# EAGLE library part RPI-ZERO (library 32teeth - Gaboze-Pi)
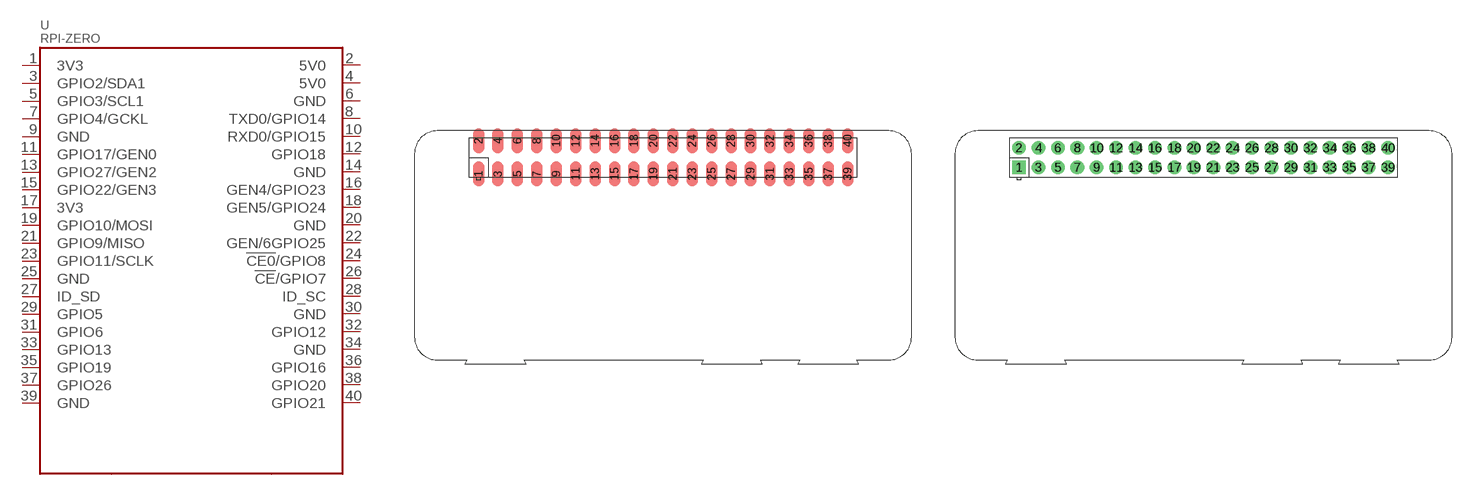
[diagram p0: symbol with the pads of RPI-ZERO; footprints RPI-ZERO, RPI-ZERO-TH]

Designator prefix -

## RPI-ZERO  [RPI-ZERO]
1  3V3  sup
2  5V0  sup
3  GPIO2/SDA1
4  5V0  sup
5  GPIO3/SCL1
6  GND  sup
7  GPIO4/GCKL
8  TXD0/GPIO14
9  GND  sup
10  RXD0/GPIO15
11  GPIO17/GEN0
12  GPIO18
13  GPIO27/GEN2
14  GND  sup
15  GPIO22/GEN3
16  GEN4/GPIO23
17  3V3  sup
18  GEN5/GPIO24
19  GPIO10/MOSI
20  GND  sup
21  GPIO9/MISO
22  GEN/6GPIO25
23  GPIO11/SCLK
24  !CE0!/GPIO8
25  GND  sup
26  !CE!/GPIO7
27  ID_SD
28  ID_SC
29  GPIO5
30  GND  sup
31  GPIO6
32  GPIO12
33  GPIO13
34  GND  sup
35  GPIO19
36  GPIO16
37  GPIO26
38  GPIO20
39  GND  sup
40  GPIO21

## RPI-ZERORPI-ZERO-TH  [RPI-ZERO-TH]
Pads as for RPI-ZERO

## RPI-ZERORPI-ZERO-SMD  [RPI-ZERO-SMD]
Pads as for RPI-ZERO

## RPI-ZERORPI-ZERO-TH-GB-CART  [RPI-ZERO-TH-GB-CART]
Pads as for RPI-ZERO

## Footprint RPI-ZERO (pad centres in mm)
Raspberry Pi Zero - SMD Male Header
smd 1.524 x 3.302: 1 8.382,24.384; 2 8.382,28.702; 3 10.922,24.384; 4 10.922,28.702; 5 13.462,24.384; 6 13.462,28.702; 7 16.002,24.384; 8 16.002,28.702; 9 18.542,24.384; 10 18.542,28.702; 11 21.082,24.384; 12 21.082,28.702; 13 23.622,24.384; 14 23.622,28.702; 15 26.162,24.384; 16 26.162,28.702; 17 28.702,24.384; 18 28.702,28.702; 19 31.242,24.384; 20 31.242,28.702; 21 33.782,24.384; 22 33.782,28.702; 23 36.322,24.384; 24 36.322,28.702; 25 38.862,24.384; 26 38.862,28.702; 27 41.402,24.384; 28 41.402,28.702; 29 43.942,24.384; 30 43.942,28.702; 31 46.482,24.384; 32 46.482,28.702; 33 49.022,24.384; 34 49.022,28.702; 35 51.562,24.384; 36 51.562,28.702; 37 54.102,24.384; 38 54.102,28.702; 39 56.642,24.384; 40 56.642,28.702

## Footprint RPI-ZERO-TH (pad centres in mm)
Raspberry Pi Zero - Through Hole
drill 1 pad 1.778 square: 1 8.37,25.23
drill 1 pad 1.778: 2 8.37,27.77; 3 10.91,25.23; 4 10.91,27.77; 5 13.45,25.23; 6 13.45,27.77; 7 15.99,25.23; 8 15.99,27.77; 9 18.53,25.23; 10 18.53,27.77; 11 21.07,25.23; 12 21.07,27.77; 13 23.61,25.23; 14 23.61,27.77; 15 26.15,25.23; 16 26.15,27.77; 17 28.69,25.23; 18 28.69,27.77; 19 31.23,25.23; 20 31.23,27.77; 21 33.77,25.23; 22 33.77,27.77; 23 36.31,25.23; 24 36.31,27.77; 25 38.85,25.23; 26 38.85,27.77; 27 41.39,25.23; 28 41.39,27.77; 29 43.93,25.23; 30 43.93,27.77; 31 46.47,25.23; 32 46.47,27.77; 33 49.01,25.23; 34 49.01,27.77; 35 51.55,25.23; 36 51.55,27.77; 37 54.09,25.23; 38 54.09,27.77; 39 56.63,25.23; 40 56.63,27.77

## Footprint RPI-ZERO-SMD (pad centres in mm)
Raspberry Pi Zero - SMD
smd 1.778 x 1.778: 1 8.37,25.23; 2 8.37,27.77; 3 10.91,25.23; 4 10.91,27.77; 5 13.45,25.23; 6 13.45,27.77; 7 15.99,25.23; 8 15.99,27.77; 9 18.53,25.23; 10 18.53,27.77; 11 21.07,25.23; 12 21.07,27.77; 13 23.61,25.23; 14 23.61,27.77; 15 26.15,25.23; 16 26.15,27.77; 17 28.69,25.23; 18 28.69,27.77; 19 31.23,25.23; 20 31.23,27.77; 21 33.77,25.23; 22 33.77,27.77; 23 36.31,25.23; 24 36.31,27.77; 25 38.85,25.23; 26 38.85,27.77; 27 41.39,25.23; 28 41.39,27.77; 29 43.93,25.23; 30 43.93,27.77; 31 46.47,25.23; 32 46.47,27.77; 33 49.01,25.23; 34 49.01,27.77; 35 51.55,25.23; 36 51.55,27.77; 37 54.09,25.23; 38 54.09,27.77; 39 56.63,25.23; 40 56.63,27.77

## Footprint RPI-ZERO-TH-GB-CART (pad centres in mm)
Raspberry Pi Zero - Through Hole - Gameboy Cart
drill 1 pad 1.778 square: 1 23.792,10.91
drill 1 pad 1.778: 2 21.252,10.91; 3 23.792,13.45; 4 21.252,13.45; 5 23.792,15.99; 6 21.252,15.99; 7 23.792,18.53; 8 21.252,18.53; 9 23.792,21.07; 10 21.252,21.07; 11 23.792,23.61; 12 21.252,23.61; 13 23.792,26.15; 14 21.252,26.15; 15 23.792,28.69; 16 21.252,28.69; 17 23.792,31.23; 18 21.252,31.23; 19 23.792,33.77; 20 21.252,33.77; 21 23.792,36.31; 22 21.252,36.31; 23 23.792,38.85; 24 21.252,38.85; 25 23.792,41.39; 26 21.252,41.39; 27 23.792,43.93; 28 21.252,43.93; 29 23.792,46.47; 30 21.252,46.47; 31 23.792,49.01; 32 21.252,49.01; 33 23.792,51.55; 34 21.252,51.55; 35 23.792,54.09; 36 21.252,54.09; 37 23.792,56.63; 38 21.252,56.63; 39 23.792,59.17; 40 21.252,59.17